# Altium footprint library SR PCB Library V01.PcbLib: 402 footprints (part 18 of 26)
Each footprint in its own frame and in the unit in brackets; x right, y up, seen from the top. Pads: shape width x height; smd on the part's side, far side on the other; paste and mask are expansions set on the pad; w line width, h text height; cw(c..) or ccw(c..) is an arc to the next point about the centre after c.
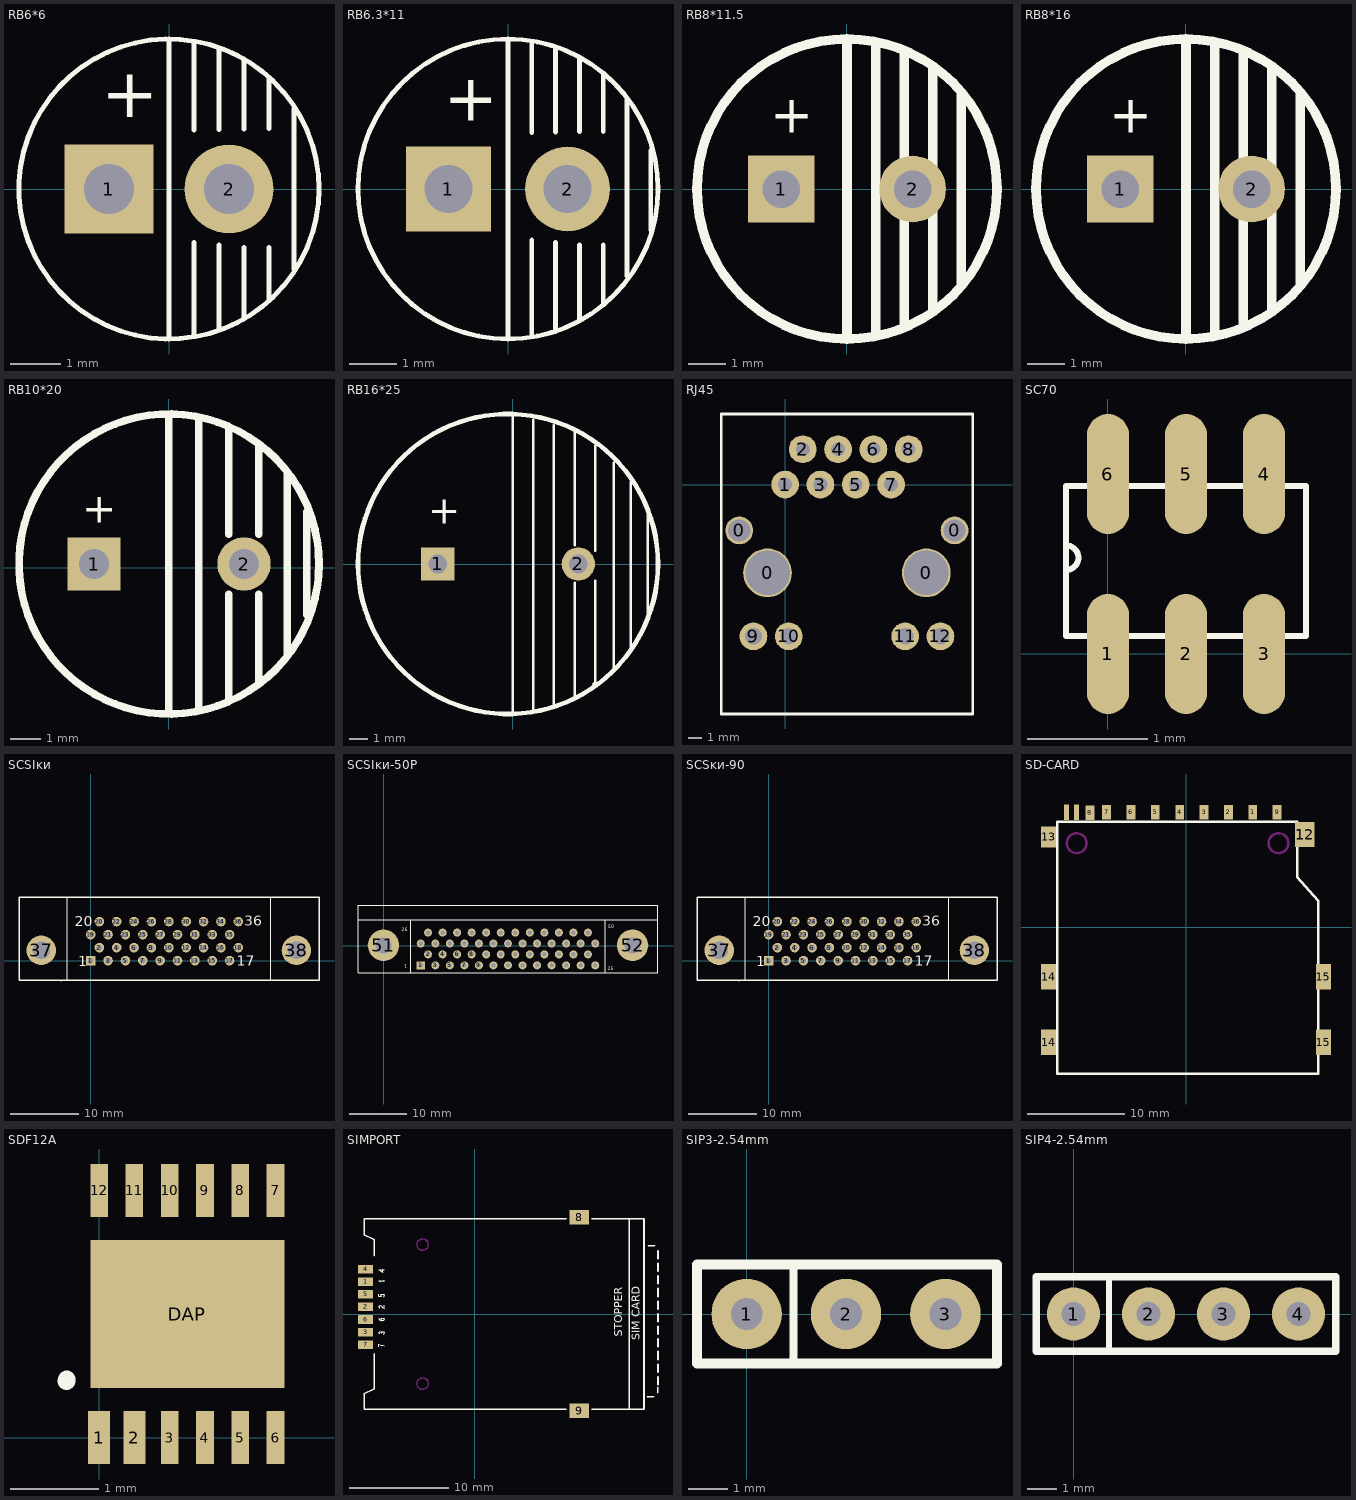
[diagram p17: the footprints below, top view; thin cyan lines are the x and y axes]

## RB6*6 [mm]
pads (2):
  rect 1.778x1.778 hole 1: 1(-1.2,0)
  round 1.778 hole 1: 2(1.2,0)
Top Overlay:
  circle w0.1: c0,0 r3
  lines w0.1: 0,-3 0,3 ; 0.5,-2.9 0.5,-1.07 ; 0.5,1.18 0.5,2.9 ; 1,-2.8 1,-1.12 ; 1,1.19 1,2.8 ; 1.5,-2.6 1.5,-1.17 ; 1.5,1.2 1.5,2.6 ; 2,-2.2 2,-1.17 ; 2,1.21 2,2.2 ; 2.5,-1.6 2.5,1.6
  text "+" at -1.35,1.43 h1

## RB6.3*11 [mm]
height 11
pads (2):
  rect 1.778x1.778 hole 1: 1(-1.25,0)
  round 1.778 hole 1: 2(1.25,0)
Top Overlay:
  circle w0.1: c0,0 r3.15
  lines w0.1: 0,-3.15 0,3.15 ; 0.5,-3.06 0.5,-1.07 ; 0.5,1.18 0.5,3.06 ; 1,-2.99 1,-1.12 ; 1,1.19 1,2.96 ; 1.5,-2.76 1.5,-1.17 ; 1.5,1.2 1.5,2.74 ; 2,-2.41 2,-1.17 ; 2,1.21 2,2.41 ; 2.5,-1.83 2.5,1.91 ; 3,-0.86 3,0.81
  text "+" at -1.35,1.43 h1

## RB8*11.5 [mil]
height 452.76
pads (2):
  rect 70x70 hole 39.37: 1(-68.9,0)
  round 70 hole 39.37: 2(68.9,0)
Top Overlay:
  circle w10: c0,0 r157.48
  lines w9.84: 30,-153.54 30,153.54 ; 60,-145.67 60,143.7 ; 90,-127.95 90,125.99 ; 120,-98.42 120,98.43
  lines w10: 0,-157.48 0,157.48
  text "+" at -80.71,59.06 h39.37

## RB8*16 [mil]
height 452.76
pads (2):
  rect 70x70 hole 39.37: 1(-68.9,0)
  round 70 hole 39.37: 2(68.9,0)
Top Overlay:
  circle w10: c0,0 r157.48
  lines w9.84: 30,-153.54 30,153.54 ; 60,-145.67 60,143.7 ; 90,-127.95 90,125.99 ; 120,-98.42 120,98.43
  lines w10: 0,-157.48 0,157.48
  text "+" at -80.71,59.06 h39.37

## RB10*20 [mil]
height 787.4
pads (2):
  rect 70x70 hole 39.37: 1(-98.42,5)
  round 70 hole 39.37: 2(98.43,5)
Top Overlay:
  circle w10: c0,5 r196.85
  lines w9.84: 0,-191.85 0,201.85 ; 39.37,-184.76 39.37,192.8 ; 78.74,-172.16 78.74,-34.37 ; 78.74,44.37 78.74,182.17 ; 118.11,-152.48 118.11,-34.37 ; 118.11,44.37 118.11,162.48 ; 155.51,-113.11 155.51,123.11 ; 181.1,-61.53 181.1,73.9
  text "+" at -114.13,59.06 h39.37

## RB16*25 [mil]
height 984.25
pads (2):
  rect 70x70 hole 39.37: 1(-157.48,0)
  round 70 hole 39.37: 2(137.79,0)
Top Overlay:
  circle w10: c-9.84,0 r314.96
  lines w5: 0,-311.02 0,314.96 ; 43.31,-311.02 43.31,303.15 ; 86.61,-295.28 86.61,291.34 ; 125.98,283.46 129.92,279.53 129.92,39.37 ; 129.92,-283.47 129.92,-39.37 ; 169.29,-251.97 173.23,-248.03 173.23,-35.43 ; 173.23,27.56 173.23,248.03 ; 212.6,-224.41 212.6,212.6 ; 244.09,-185.04 248.03,-181.1 248.03,173.23 ; 283.46,-118.11 283.46,106.3
  text "+" at -177.21,85 h59.06

## RJ45 [mm]
pads (16):
  round 2 hole 1.6: 0(-3.3,-3.3) 0(12.19,-3.3)
  round 3.5 hole 3.2: 0(-1.27,-6.35) 0(10.16,-6.35)
  round 2 hole 1: 1(0,0) 2(1.27,2.54) 3(2.54,0) 4(3.81,2.54) 5(5.08,0) 6(6.35,2.54) 7(7.62,0) 8(8.89,2.54)
  round 2 hole 1.2: 9(-2.285,-10.92) 10(0.255,-10.92) 11(8.635,-10.92) 12(11.175,-10.92)
Top Overlay:
  lines w0.2: -4.6,-16.51 13.5,-16.51 13.5,5.08 -4.6,5.08 -4.6,-16.51

## SC70 [mm]
pads (6):
  oval 0.35x1 smd: 1(0,0) 2(0.65,0) 3(1.3,0) 4(1.3,1.5) 5(0.65,1.5) 6(0,1.5)
Top Overlay:
  lines w0.05: -0.35,0.7 ccw(c-0.35,0.803) -0.35,0.905 ; -0.35,0.15 -0.35,1.4 1.65,1.4 1.65,0.15 -0.35,0.15

## SCSIĸͷ [mm]
pads (38):
  rect 1.4x1.4 hole 0.8: 1(0,0)
  round 1.4 hole 0.8: 2(1.27,1.905) 3(2.54,0) 4(3.81,1.905) 5(5.08,0) 6(6.35,1.905) 7(7.62,0) 8(8.89,1.905) 9(10.16,0) 10(11.43,1.905) 11(12.7,0) 12(13.97,1.905) 13(15.24,0) 14(16.51,1.905) 15(17.78,0) 16(19.05,1.905) 17(20.32,0) 18(21.59,1.905) 19(0,3.81) 20(1.27,5.715) 21(2.54,3.81) 22(3.81,5.715) 23(5.08,3.81) 24(6.35,5.715) 25(7.62,3.81) 26(8.89,5.715) 27(10.16,3.81) 28(11.43,5.715) 29(12.7,3.81) 30(13.97,5.715) 31(15.24,3.81) 32(16.51,5.715) 33(17.78,3.81) 34(19.05,5.715) 35(20.32,3.81) 36(21.59,5.715)
  round 4.3 hole 2.6: 37(-7.23,1.515) 38(30.09,1.515)
Top Overlay:
  lines w0.127: -4.343,-2.946 ccw(c-4.405,-2.885) -4.318,-2.885 ; -3.459,-2.885 -3.459,9.27 ; 26.35,-2.844 26.35,9.311
  lines w0.2: -10.485,-2.9 33.395,-2.9 33.395,9.27 -10.485,9.27 -10.485,-2.9
  text "17" at 21.336,-0.724 h1.5
  text "1" at -1.803,-0.8 h1.5
  text "36" at 22.428,5.143 h1.5
  text "20" at -2.311,5.016 h1.5

## SCSIĸͷ-50P [mm]
pads (52):
  rect 1.4x1.4 hole 0.8: 1(6.46,-3.455)
  round 1.4 hole 0.8: 2(7.73,-1.55) 3(9,-3.455) 4(10.27,-1.55) 5(11.54,-3.455) 6(12.81,-1.55) 7(14.08,-3.455) 8(15.35,-1.55) 9(16.62,-3.455) 10(17.89,-1.55) 11(19.16,-3.455) 12(20.43,-1.55) 13(21.7,-3.455) 14(22.97,-1.55) 15(24.24,-3.455) 16(25.51,-1.55) 17(26.78,-3.455) 18(28.05,-1.55) 19(29.32,-3.455) 20(30.59,-1.55) 21(31.86,-3.455) 22(33.13,-1.55) 23(34.4,-3.455) 24(35.67,-1.55) 25(36.94,-3.455) 26(6.46,0.355) 27(7.73,2.26) 28(9,0.355) 29(10.27,2.26) 30(11.54,0.355) 31(12.81,2.26) 32(14.08,0.355) 33(15.35,2.26) 34(16.62,0.355) 35(17.89,2.26) 36(19.16,0.355) 37(20.43,2.26) 38(21.7,0.355) 39(22.97,2.26) 40(24.24,0.355) 41(25.51,2.26) 42(26.78,0.355) 43(28.05,2.26) 44(29.32,0.355) 45(30.59,2.26) 46(31.86,0.355) 47(33.13,2.26) 48(34.4,0.355) 49(35.67,2.26) 50(36.94,0.355)
  round 5.5 hole 2.8: 51(-0.05,0.05) 52(43.45,0.05)
Top Overlay:
  lines w0.2: -4.5,4.545 47.9,4.545 ; 4.7,-4.755 4.7,4.465 ; 38.7,-4.755 38.7,4.545 ; -4.5,-4.755 -4.5,7.045 47.9,7.045 47.9,-4.755 -4.5,-4.755
  text "1" at 3.564,-3.836 h0.6
  text "25" at 39.099,-4.344 h0.6
  text "26" at 3.158,2.463 h0.6
  text "50" at 39.226,3.022 h0.6

## SCSĸͷ-90 [mm]
pads (38):
  rect 1.4x1.4 hole 0.8: 1(0,0)
  round 1.4 hole 0.8: 2(1.27,1.905) 3(2.54,0) 4(3.81,1.905) 5(5.08,0) 6(6.35,1.905) 7(7.62,0) 8(8.89,1.905) 9(10.16,0) 10(11.43,1.905) 11(12.7,0) 12(13.97,1.905) 13(15.24,0) 14(16.51,1.905) 15(17.78,0) 16(19.05,1.905) 17(20.32,0) 18(21.59,1.905) 19(0,3.81) 20(1.27,5.715) 21(2.54,3.81) 22(3.81,5.715) 23(5.08,3.81) 24(6.35,5.715) 25(7.62,3.81) 26(8.89,5.715) 27(10.16,3.81) 28(11.43,5.715) 29(12.7,3.81) 30(13.97,5.715) 31(15.24,3.81) 32(16.51,5.715) 33(17.78,3.81) 34(19.05,5.715) 35(20.32,3.81) 36(21.59,5.715)
  round 4.3 hole 2.6: 37(-7.23,1.515) 38(30.09,1.515)
Top Overlay:
  lines w0.127: -4.343,-2.946 ccw(c-4.405,-2.885) -4.318,-2.885 ; -3.459,-2.885 -3.459,9.27 ; 26.35,-2.844 26.35,9.311
  lines w0.2: -10.485,-2.9 33.395,-2.9 33.395,9.27 -10.485,9.27 -10.485,-2.9
  text "17" at 21.336,-0.724 h1.5
  text "1" at -1.803,-0.8 h1.5
  text "36" at 22.428,5.143 h1.5
  text "20" at -2.311,5.016 h1.5

## SD-CARD [mm]
pads (17):
  rect 0.9x1.5 smd: 1(6.853,11.811) 2(4.353,11.811) 3(1.853,11.811) 4(-0.647,11.811) 5(-3.147,11.811) 6(-5.647,11.811) 7(-8.147,11.811) 8(-9.855,11.76) 9(9.353,11.811)
  rect 0.5x1.6 smd: 10(-11.249,11.811) 11(-12.249,11.811)
  rect 2x2.6 smd: 12(12.192,9.525)
  rect 1.524x2.159 smd: 13(-14.097,9.271)
  rect 1.524x2.6 smd: 14(-14.097,-11.811) 14(-14.097,-5.08) 15(14.097,-11.811) 15(14.097,-5.08)
Top Overlay:
  lines w0.254: 11.405,10.846 11.405,5.156 13.564,2.743 13.564,-15.011 -13.233,-15.011 -13.228,10.846 11.41,10.846
Keep-Out Layer:
  circle w0.254: c9.495,8.636 r1.016
  circle w0.254: c-11.227,8.636 r1.016

## SDF12A [mm]
pads (13):
  rect 0.25x0.6 smd: 1(0,0) 2(0.4,0)
  rect 0.2x0.6 smd: 3(0.8,0) 4(1.2,0) 5(1.6,0) 6(2,0) 7(2,2.8) 8(1.6,2.8) 9(1.2,2.8) 10(0.8,2.8) 11(0.4,2.8) 12(0,2.8)
  rect 2.2x1.68 smd: DAP(1,1.4)
Top Overlay:
  lines w0.2: -0.37,0.64 ccw(c-0.541,0.677) -0.367,0.662

## SIMPORT [mil]
height 19.68
pads (9):
  rect 60x33.99 smd: 1(-433.01,128.05) 2(-433.01,28.05) 3(-433.01,-71.95) 4(-433.01,178.05) 5(-433.01,78.05) 6(-433.01,-21.95) 7(-433.01,-121.95)
  rect 78.74x59.06 smd: 8(414.51,383.86) 9(414.51,-383.86)
Top Overlay:
  lines w4: -379.96,-129.86 -379.96,-119.86 -374.46,-121.86 -370.43,-123.11 -366.76,-124.11 -362.73,-124.86 -357.96,-125.36 ; -379.96,77.55 -379.96,70.8 -370.43,70.05 -371.89,72.3 -372.26,74.05 -371.89,75.8 -370.43,77.55 -368.59,78.8 -365.66,79.3 -362.73,79.05 -360.16,77.8 -358.69,76.05 -357.96,73.8 -358.33,71.55 -359.43,69.8 -361.26,68.3 ; -378.13,-78.72 -379.59,-76.47 -379.96,-74.22 -378.86,-71.97 -377.03,-70.72 -374.83,-70.22 -372.63,-70.72 -370.79,-71.97 -369.69,-73.47 ; -377.39,-16.79 -379.23,-18.04 -379.96,-19.79 -379.59,-21.54 -377.76,-23.29 -375.19,-24.54 -372.63,-25.29 -367.86,-25.79 -364.19,-25.54 -360.89,-24.54 -358.69,-22.79 -357.96,-20.79 -358.69,-19.04 -360.53,-17.54 -362.73,-16.54 -364.93,-16.29 -367.49,-16.54 -369.69,-17.54 -371.16,-18.79 -371.89,-20.54 -371.16,-22.54 -369.69,-24.04 -367.13,-25.79 ; -376.29,23.89 -378.49,25.39 -379.59,27.14 -379.96,29.14 -379.23,31.64 -377.39,33.39 -375.19,33.89 -372.99,33.64 -371.16,32.64 -367.49,27.64 -364.93,25.39 -361.26,23.89 -357.96,23.39 -357.96,33.89 ; -375.56,128.75 -379.96,131.75 -357.96,131.75 ; -369.69,-75.72 -369.69,-73.47 ; -364.19,177.88 -364.19,165.38 -379.96,174.63 -357.96,174.63 ; -362.36,-80.72 -359.79,-79.22 -358.33,-77.22 -357.96,-74.97 -358.33,-72.97 -360.16,-70.97 -362.36,-69.72 -364.56,-69.47 -367.13,-69.97 -368.96,-71.72 -369.69,-73.47 ; -357.96,128.75 -357.96,134.75
  lines w6: -397.81,-158.07 -397.81,-295.87 -439.15,-315.55 -439.15,-378.54 362.03,-378.54 ; -397.81,230.51 -397.81,294.69 -439.15,314.37 -439.15,377.36 362.03,377.36 ; 464.48,-378.54 671.09,-378.54 671.09,377.36 464.48,377.36 ; 612.03,-378.54 612.03,377.36 ; 684.05,-327.36 710.07,-327.36 ; 688.04,271.06 714.06,271.06 ; 726.2,-312.87 726.2,-291.47 ; 726.6,-280.72 726.6,-248.7 ; 726.6,-230.72 726.6,-198.7 ; 726.6,-180.72 726.6,-148.7 ; 726.6,-130.72 726.6,-98.7 ; 726.6,-80.72 726.6,-48.7 ; 726.6,-30.72 726.6,1.3 ; 726.6,19.28 726.6,51.3 ; 726.6,69.28 726.6,101.3 ; 726.6,119.28 726.6,151.3 ; 726.6,169.28 726.6,201.3 ; 726.6,219.28 726.6,251.3
  text "STOPPER" at 585,-90 h31.5
  text "SIM CARD" at 655,-105 h31.5
Keep-Out Layer:
  circle w5: c-206.87,275 r22.5
  circle w5: c-206.87,-276.18 r22.5

## SIP3-2.54mm [mm]
pads (3):
  round 1.8 hole 0.813: 1(0,0) 2(2.54,0) 3(5.08,0)
Top Overlay:
  lines w0.2: 1.2,-1.27 1.2,1.27
  lines w0.254: -1.27,-1.27 -1.27,1.27 6.4,1.27 6.4,-1.27 -1.27,-1.27

## SIP4-2.54mm [mm]
pads (4):
  round 1.8 hole 0.813: 1(0,0) 2(2.54,0) 3(5.08,0) 4(7.62,0)
Top Overlay:
  lines w0.2: 1.2,-1.27 1.2,1.27
  lines w0.254: -1.27,-1.27 -1.27,1.27 8.89,1.27 8.89,-1.27 -1.27,-1.27